# Altium integrated library NDS7002A (1).IntLib: 1 symbol
Pins are listed as number, name and electrical type; pins without a type are passive.

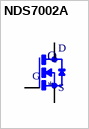
[diagram p0: symbol NDS7002A]

## NDS7002A
designator Q
N-Channel 60V 280mA _Ta_ 300mW _Ta_ Surface Mount SOT-23 _TO-236AB_; MP: NDS7002A; MF: ON Semiconductor; Availability: Unavailable; SnapEDA_Link: https://www.snapeda.com/parts/NDS7002A/ON%20Semiconductor/view-part/2657545/?ref=snap; Package: SOT-23-3 ON Semiconductor; Price: None; Value: *
footprint SOT23
pins: 1 G, 2 S, 3 D